# Altium schematic symbol library Power.SchLib: 8 symbols
Pins are listed as number, name and electrical type; pins without a type are passive.

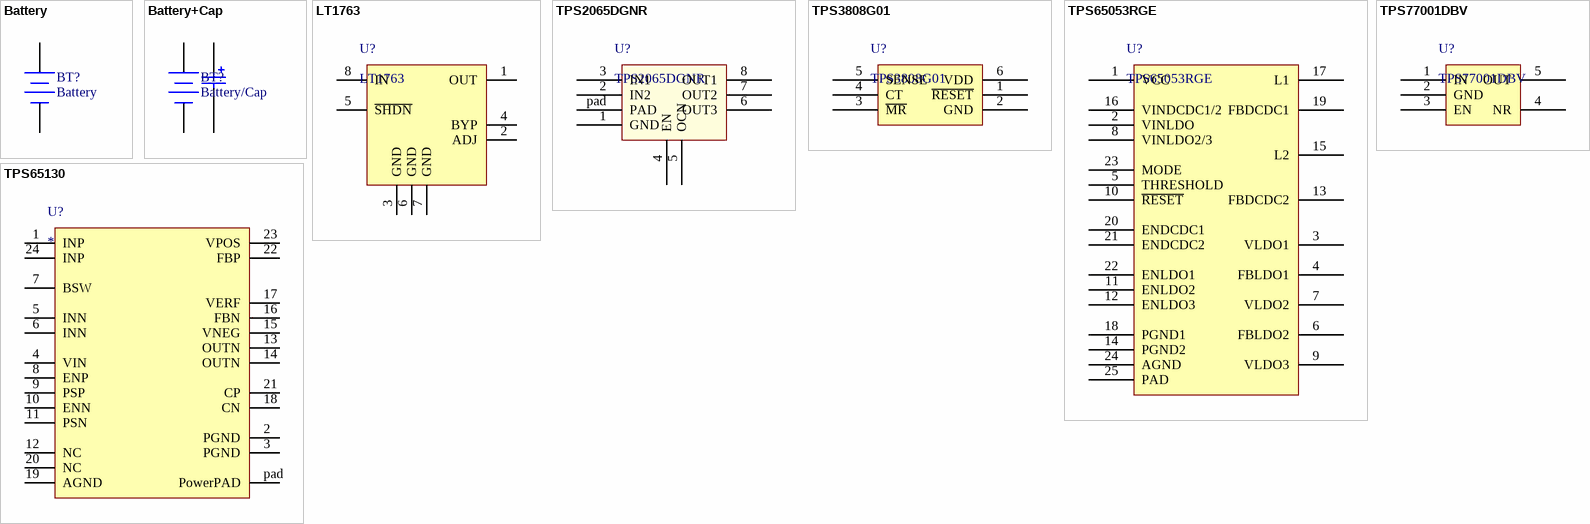
[diagram p0: symbols Battery to TPS77001DBV]

## Battery
designator BT?
Multicell Battery; Published: 24-Mar-1999; LatestRevisionDate: 17-Jul-2002; LatestRevisionNote: Re-released for DXP Platform.; PackageReference: BAT-2; Publisher: Altium Limited
footprint BAT-2 (Multicell Battery; 2 Leads)
footprint BAT-CR1220 + CAP (CR1220 battery holder + Panansonic F series double layer cap)
pins: 1 +, 2 -

## Battery+Cap
designator BT?, comment Battery/Cap
Multicell Battery; Published: 24-Mar-1999; LatestRevisionDate: 17-Jul-2002; LatestRevisionNote: Re-released for DXP Platform.; PackageReference: BAT-2; Publisher: Altium Limited
footprint BAT-2 (Multicell Battery; 2 Leads)
footprint BAT-CR1220 + CAP (CR1220 battery holder + Panansonic F series double layer cap)
pins: 1 BT+, 2 BT-, 3 Cap+, 4 Cap-

## LT1763
designator U?
Linear Tech, 500mA, Low Noise, LDO  Micropower Regulators
footprint SO8_L (SOIC, 8-Leads, Body 4.9x3.9mm, Pitch 1.27mm, IPC High Density)
footprint SO8_M (SOIC, 8-Leads, Body 4.9x3.9mm, Pitch 1.27mm, IPC Low Density)
footprint SO8_N (SOIC, 8-Leads, Body 4.9x3.9mm, Pitch 1.27mm, IPC Medium Density)
pins: 1 OUT, 2 ADJ, 3 GND, 4 BYP, 5 ~{SHDN}, 6 GND, 7 GND, 8 IN

## TPS2065DGNR
designator U?
CURRENT-LIMITED, POWER-DISTRIBUTION SWITCHES
footprint MSOP8-POWERPAD (8pin, 3mm*3mm, 0.65mm pitch TSOP package with PowerPAD)
pins: 1 GND, 2 IN2, 3 IN1, 4 EN, 5 OCN, 6 OUT3, 7 OUT2, 8 OUT1, pad PAD

## TPS3808G01
designator U?
LOW QUIESCENT CURRENT, PROGRAMMABLE DELAY SUPERVISORY CIRCUIT
footprint SOT23-6_L (SOT23, 6-Leads, Body 2.9x1.6mm, Pitch 0.95mm, Lead Span 2.8mm, IPC High Density)
footprint SOT23-6_M (SOT23, 6-Leads, Body 2.9x1.6mm, Pitch 0.95mm, Lead Span 2.8mm, IPC Low Density)
footprint SOT23-6_N (SOT23, 6-Leads, Body 2.9x1.6mm, Pitch 0.95mm, Lead Span 2.8mm, IPC Medium Density)
pins: 1 ~{RESET}, 2 GND, 3 ~{MR}, 4 CT, 5 SENSE, 6 VDD

## TPS65053RGE
designator U?
5-CHANNEL POWER MGMT IC WITH TWO STEP DOWN CONVERTERS AND 3 LOW-INPUT VOLTAGE LDOs
footprint QFN50P400X400X100-24M (QFN, 24-Leads, Body 4.2x4.2mm (max), Pitch 0.50mm, IPC Low Density)
pins: 1 VCC, 2 VINLDO, 3 VLDO1, 4 FBLDO1, 5 THRESHOLD, 6 FBLDO2, 7 VLDO2, 8 VINLDO2/3, 9 VLDO3, 10 ~{RESET}, 11 ENLDO2, 12 ENLDO3, 13 FBDCDC2, 14 PGND2, 15 L2, 16 VINDCDC1/2, 17 L1, 18 PGND1, 19 FBDCDC1, 20 ENDCDC1, 21 ENDCDC2, 22 ENLDO1, 23 MODE, 24 AGND, 25 PAD

## TPS65130
designator U?
POSITIVE AND NEGATIVE OUTPUT DC-DC CONVERTER for LCD
pins: 1 INP, 2 PGND, 3 PGND, 4 VIN, 5 INN, 6 INN, 7 BSW, 8 ENP, 9 PSP, 10 ENN, 11 PSN, 12 NC, 13 OUTN, 14 OUTN, 15 VNEG, 16 FBN, 17 VERF, 18 CN, 19 AGND, 20 NC, 21 CP, 22 FBP, 23 VPOS, 24 INP, pad PowerPAD

## TPS77001DBV
designator U?
ULTRALOW-POWER 50-mA LOW-DROPOUT LINEAR REGULATORS
footprint SOT23-5_N (SOT23, 5-Leads, Body 2.9x1.6mm, Pitch 0.95mm, Lead Span 2.8mm, IPC Medium Density)
footprint SOT23-5_L (SOT23, 5-Leads, Body 2.9x1.6mm, Pitch 0.95mm, Lead Span 2.8mm, IPC High Density)
footprint SOT23-5_M (SOT23, 5-Leads, Body 2.9x1.6mm, Pitch 0.95mm, Lead Span 2.8mm, IPC Low Density)
pins: 1 IN, 2 GND, 3 EN, 4 NR, 5 OUT